# Altium schematic symbol library 744770122.SchLib: 1 symbol
Pins are listed as number, name and electrical type; pins without a type are passive.

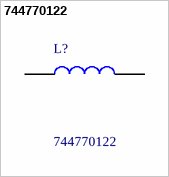
[diagram p0: symbol 744770122]

## 744770122
designator L?
WURTH ELEKTRONIK - 744770122 - Power Inductor (SMD), 22 H, 4.1 A, Shielded, 5 A, WE-PD Series, 12mm x 12mm x 8mm; Mouser2 Part Number: *; Mouser2 Price/Stock: *; Manufacturer_Name: Wurth Elektronik; Manufacturer_Part_Number: 744770122; Datasheet Link: https://datasheet.datasheetarchive.com/originals/distributors/Datasheets_SAMA/5df985c0799d1d1baf5ad0b49bccb74f.pdf; Geometry.Height: 8mm
footprint INDPM120120X800N
pins: 1, 2